# Altium integrated library Analog Devices Data Converters Analog-to-Digital Converters.IntLib: 2400 symbols (part 66 of 338)
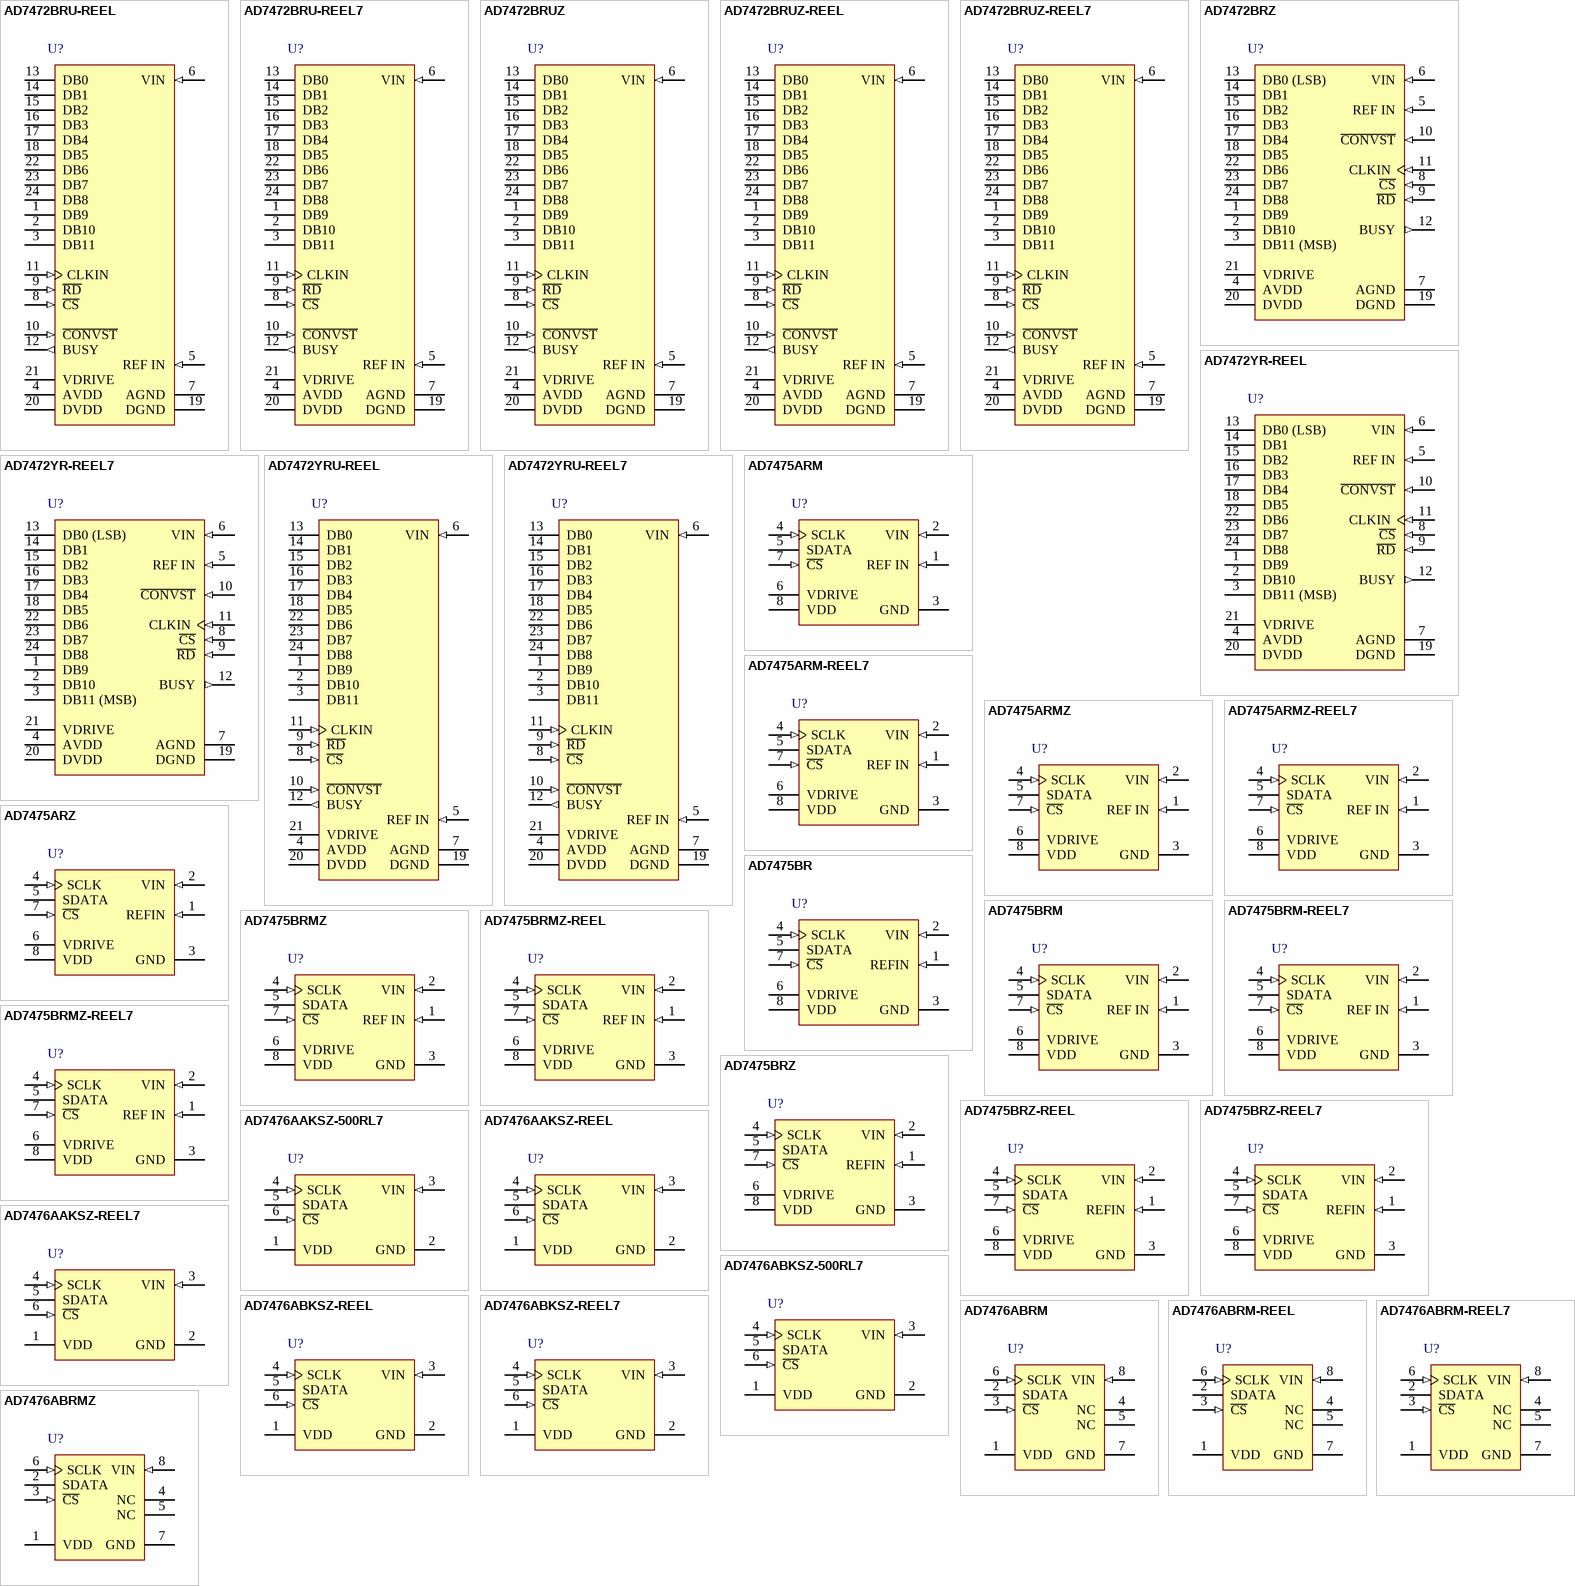
[diagram p193: symbols AD7472BRU-REEL to AD7476ABRMZ]

## AD7475ARMZ-REEL7
designator U?
Single 12-Bit Analog-to-Digital Converter with Serial Interface, 1MSPS, -40 to +85 degC, RM-8, Pb-Free, Reel; Part Number: AD7475; Manufacturer: Analog Devices; Resolution (Bits): 12; Channels: 1; Throughput Rate (SPS): 1M; Interface: Ser; DatasheetVersion: Rev.B; PackageVersion: Aug-2005; PackageReference: RM-8; PackageDescription: 8-Lead Mini Small Outline Package [MSOP]; RoHS: Y; Packing: Reel; Mounting Technology: Surface Mount; Code_JEDEC: MO-187-AA; ComponentLink1Description: Manufacturer URL; ComponentLink1URL: http://www.analog.com/en/index.html; ComponentLink2Description: Datasheet; ComponentLink2URL: http://www.analog.com/static/imported-files/data_sheets/AD7475_7495.pdf; ComponentLink3Description: Package Specification; ComponentLink3URL: http://www.analog.com/static/imported-files/packages/PKG_PDF/MSOP%28RM%29/RM_8.pdf; ComponentLink4Description: Product URL; ComponentLink4URL: http://www.analog.com/en/analog-to-digital-converters/ad-converters/ad7475/products/product.html
footprint RM-8_N (TSOP, 8-Leads, Body 3x3mm, Pitch 0.65mm, IPC Medium Density)
footprint RM-8_L (TSOP, 8-Leads, Body 3x3mm, Pitch 0.65mm, IPC High Density)
footprint RM-8_M (TSOP, 8-Leads, Body 3x3mm, Pitch 0.65mm, IPC Low Density)
pins: 1 REF IN (in) "Reference Input for the AD7475. An external reference must be applied to this input. The voltage range for the external reference is 2.5 V +/- 1% for specified performance. A cap of a least 0.1 uF should be placed on the REF (See Datasheet)", 2 VIN (in) "Analog Input. Single-ended analog input channel. The input range is 0 to REF IN.", 3 GND (power) "Analog Ground. Ground reference point for all circuitry on the AD7475/AD7495. All analog input signals and any external reference signal should be referred to this GND voltage.", 4 SCLK (in) "Serial Clock, Logic Input. SCLK provides the serial clock for accessing data from the part. This clock input is also used as the clock source for the AD7475/AD7495 conversion process.", 5 SDATA (hiz) "Data Out, Logic Output. The conversion result from the AD7475/AD7495 is provided on this output as a serial data stream. The bits are clocked out on the falling edge of the SCLK input. The data stream consists of four (See Datasheet)", 6 VDRIVE (power) "Logic Power Supply Input. The voltage supplied at this pin determines the operating voltage for the serial interface of the AD7475/AD7495.", 7 ~{CS} (in) "Chip Select, Active Low Logic Input. This input provides the dual function of initiating conversions on the AD7475/AD7495 and also frames the serial data transfer.", 8 VDD (power) "Power Supply Input. The VDD range for the AD7475/AD7495 is from 2.7 V to 5.25 V."

## AD7475ARZ
designator U?
Single 12-Bit Analog-to-Digital Converter with Serial Interface, 1MSPS, -40 to +85 degC, R-8, Pb-Free, Tube; Part Number: AD7475; Manufacturer: Analog Devices; Resolution (Bits): 12; Channels: 1; Throughput Rate (SPS): 1M; Interface: Ser; DatasheetVersion: Rev.B; PackageVersion: 060506-A; PackageReference: R-8; PackageDescription: 8-Lead Standard Small Outline Package [SOIC_N] Narrow Body; RoHS: Y; Packing: Tube; Mounting Technology: Surface Mount; Code_JEDEC: MS-012-AA; Code_IPC: SOIC127P600-8; ComponentLink1Description: Manufacturer URL; ComponentLink1URL: http://www.analog.com/en/index.html; ComponentLink2Description: Datasheet; ComponentLink2URL: http://www.analog.com/static/imported-files/data_sheets/AD7475_7495.pdf; ComponentLink3Description: Package Specification; ComponentLink3URL: http://www.analog.com/static/imported-files/packages/PKG_PDF/SOIC_Narrow%20(R)/R_8.pdf; ComponentLink4Description: Product URL; ComponentLink4URL: http://www.analog.com/en/analog-to-digital-converters/ad-converters/ad7475/products/product.html
footprint R-8_N (SOIC, 8-Leads, Body 4.9x3.9mm, Pitch 1.27mm, IPC Medium Density)
footprint R-8_L (SOIC, 8-Leads, Body 4.9x3.9mm, Pitch 1.27mm, IPC High Density)
footprint R-8_M (SOIC, 8-Leads, Body 4.9x3.9mm, Pitch 1.27mm, IPC Low Density)
pins: 1 REFIN (in) "Reference Input for the AD7475. An external reference must be applied to this input. The voltage range for the external reference is 2.5 V +/- 1% for specified performance. A cap of a least 0.1 uF should be placed on the REF (See Datasheet)", 2 VIN (in) "Analog Input. Single-ended analog input channel. The input range is 0 to REF IN.", 3 GND (power) "Analog Ground. Ground reference point for all circuitry on the AD7475. All analog input signals and any external reference signal should be referred to this GND voltage.", 4 SCLK (in) "Serial Clock, Logic Input. SCLK provides the serial clock for accessing data from the part. This clock input is also used as the clock source for the AD7475 conversion process.", 5 SDATA (hiz) "Data Out, Logic Output. The conversion result from the AD7475 is provided on this output as a serial data stream. The bits are clocked out on the falling edge of the SCLK input. The data stream consists of four leading zeros (See Datasheet)", 6 VDRIVE (power) "Logic Power Supply Input. The voltage supplied at this pin determines the operating voltage for the serial interface of the AD7475.", 7 ~{CS} (in) "Chip Select, Active Low Logic Input. This input provides the dual function of initiating conversions on the AD7475 and also frames the serial data transfer.", 8 VDD (power) "Power Supply Input. The VDD range for the AD7475 is from 2.7 V to 5.25 V."

## AD7475BR
designator U?
Single 12-Bit Analog-to-Digital Converter with Serial Interface, 1MSPS, -40 to +85 degC, R-8, Tube; Part Number: AD7475; Manufacturer: Analog Devices; Resolution (Bits): 12; Channels: 1; Throughput Rate (SPS): 1M; Interface: Ser; DatasheetVersion: Rev.B; PackageVersion: 060506-A; PackageReference: R-8; PackageDescription: 8-Lead Standard Small Outline Package [SOIC_N] Narrow Body; RoHS: N; Packing: Tube; Mounting Technology: Surface Mount; Code_JEDEC: MS-012-AA; Code_IPC: SOIC127P600-8; ComponentLink1Description: Manufacturer URL; ComponentLink1URL: http://www.analog.com/en/index.html; ComponentLink2Description: Datasheet; ComponentLink2URL: http://www.analog.com/static/imported-files/data_sheets/AD7475_7495.pdf; ComponentLink3Description: Package Specification; ComponentLink3URL: http://www.analog.com/static/imported-files/packages/PKG_PDF/SOIC_Narrow%20(R)/R_8.pdf; ComponentLink4Description: Product URL; ComponentLink4URL: http://www.analog.com/en/analog-to-digital-converters/ad-converters/ad7475/products/product.html
footprint R-8_N (SOIC, 8-Leads, Body 4.9x3.9mm, Pitch 1.27mm, IPC Medium Density)
footprint R-8_L (SOIC, 8-Leads, Body 4.9x3.9mm, Pitch 1.27mm, IPC High Density)
footprint R-8_M (SOIC, 8-Leads, Body 4.9x3.9mm, Pitch 1.27mm, IPC Low Density)
pins: 1 REFIN (in) "Reference Input for the AD7475. An external reference must be applied to this input. The voltage range for the external reference is 2.5 V +/- 1% for specified performance. A cap of a least 0.1 uF should be placed on the REF (See Datasheet)", 2 VIN (in) "Analog Input. Single-ended analog input channel. The input range is 0 to REF IN.", 3 GND (power) "Analog Ground. Ground reference point for all circuitry on the AD7475. All analog input signals and any external reference signal should be referred to this GND voltage.", 4 SCLK (in) "Serial Clock, Logic Input. SCLK provides the serial clock for accessing data from the part. This clock input is also used as the clock source for the AD7475 conversion process.", 5 SDATA (hiz) "Data Out, Logic Output. The conversion result from the AD7475 is provided on this output as a serial data stream. The bits are clocked out on the falling edge of the SCLK input. The data stream consists of four leading zeros (See Datasheet)", 6 VDRIVE (power) "Logic Power Supply Input. The voltage supplied at this pin determines the operating voltage for the serial interface of the AD7475.", 7 ~{CS} (in) "Chip Select, Active Low Logic Input. This input provides the dual function of initiating conversions on the AD7475 and also frames the serial data transfer.", 8 VDD (power) "Power Supply Input. The VDD range for the AD7475 is from 2.7 V to 5.25 V."

## AD7475BRM
designator U?
Single 12-Bit Analog-to-Digital Converter with Serial Interface, 1MSPS, -40 to +85 degC, RM-8, Tube; Part Number: AD7475; Manufacturer: Analog Devices; Resolution (Bits): 12; Channels: 1; Throughput Rate (SPS): 1M; Interface: Ser; DatasheetVersion: Rev.B; PackageVersion: Aug-2005; PackageReference: RM-8; PackageDescription: 8-Lead Mini Small Outline Package [MSOP]; RoHS: N; Packing: Tube; Mounting Technology: Surface Mount; Code_JEDEC: MO-187-AA; ComponentLink1Description: Manufacturer URL; ComponentLink1URL: http://www.analog.com/en/index.html; ComponentLink2Description: Datasheet; ComponentLink2URL: http://www.analog.com/static/imported-files/data_sheets/AD7475_7495.pdf; ComponentLink3Description: Package Specification; ComponentLink3URL: http://www.analog.com/static/imported-files/packages/PKG_PDF/MSOP%28RM%29/RM_8.pdf; ComponentLink4Description: Product URL; ComponentLink4URL: http://www.analog.com/en/analog-to-digital-converters/ad-converters/ad7475/products/product.html
footprint RM-8_N (TSOP, 8-Leads, Body 3x3mm, Pitch 0.65mm, IPC Medium Density)
footprint RM-8_L (TSOP, 8-Leads, Body 3x3mm, Pitch 0.65mm, IPC High Density)
footprint RM-8_M (TSOP, 8-Leads, Body 3x3mm, Pitch 0.65mm, IPC Low Density)
pins: 1 REF IN (in) "Reference Input for the AD7475. An external reference must be applied to this input. The voltage range for the external reference is 2.5 V +/- 1% for specified performance. A cap of a least 0.1 uF should be placed on the REF (See Datasheet)", 2 VIN (in) "Analog Input. Single-ended analog input channel. The input range is 0 to REF IN.", 3 GND (power) "Analog Ground. Ground reference point for all circuitry on the AD7475/AD7495. All analog input signals and any external reference signal should be referred to this GND voltage.", 4 SCLK (in) "Serial Clock, Logic Input. SCLK provides the serial clock for accessing data from the part. This clock input is also used as the clock source for the AD7475/AD7495 conversion process.", 5 SDATA (hiz) "Data Out, Logic Output. The conversion result from the AD7475/AD7495 is provided on this output as a serial data stream. The bits are clocked out on the falling edge of the SCLK input. The data stream consists of four (See Datasheet)", 6 VDRIVE (power) "Logic Power Supply Input. The voltage supplied at this pin determines the operating voltage for the serial interface of the AD7475/AD7495.", 7 ~{CS} (in) "Chip Select, Active Low Logic Input. This input provides the dual function of initiating conversions on the AD7475/AD7495 and also frames the serial data transfer.", 8 VDD (power) "Power Supply Input. The VDD range for the AD7475/AD7495 is from 2.7 V to 5.25 V."

## AD7475BRM-REEL7
designator U?
Single 12-Bit Analog-to-Digital Converter with Serial Interface, 1MSPS, -40 to +85 degC, RM-8, Reel; Part Number: AD7475; Manufacturer: Analog Devices; Resolution (Bits): 12; Channels: 1; Throughput Rate (SPS): 1M; Interface: Ser; DatasheetVersion: Rev.B; PackageVersion: Aug-2005; PackageReference: RM-8; PackageDescription: 8-Lead Mini Small Outline Package [MSOP]; RoHS: N; Packing: Reel; Mounting Technology: Surface Mount; Code_JEDEC: MO-187-AA; ComponentLink1Description: Manufacturer URL; ComponentLink1URL: http://www.analog.com/en/index.html; ComponentLink2Description: Datasheet; ComponentLink2URL: http://www.analog.com/static/imported-files/data_sheets/AD7475_7495.pdf; ComponentLink3Description: Package Specification; ComponentLink3URL: http://www.analog.com/static/imported-files/packages/PKG_PDF/MSOP%28RM%29/RM_8.pdf; ComponentLink4Description: Product URL; ComponentLink4URL: http://www.analog.com/en/analog-to-digital-converters/ad-converters/ad7475/products/product.html
footprint RM-8_N (TSOP, 8-Leads, Body 3x3mm, Pitch 0.65mm, IPC Medium Density)
footprint RM-8_L (TSOP, 8-Leads, Body 3x3mm, Pitch 0.65mm, IPC High Density)
footprint RM-8_M (TSOP, 8-Leads, Body 3x3mm, Pitch 0.65mm, IPC Low Density)
pins: 1 REF IN (in) "Reference Input for the AD7475. An external reference must be applied to this input. The voltage range for the external reference is 2.5 V +/- 1% for specified performance. A cap of a least 0.1 uF should be placed on the REF (See Datasheet)", 2 VIN (in) "Analog Input. Single-ended analog input channel. The input range is 0 to REF IN.", 3 GND (power) "Analog Ground. Ground reference point for all circuitry on the AD7475/AD7495. All analog input signals and any external reference signal should be referred to this GND voltage.", 4 SCLK (in) "Serial Clock, Logic Input. SCLK provides the serial clock for accessing data from the part. This clock input is also used as the clock source for the AD7475/AD7495 conversion process.", 5 SDATA (hiz) "Data Out, Logic Output. The conversion result from the AD7475/AD7495 is provided on this output as a serial data stream. The bits are clocked out on the falling edge of the SCLK input. The data stream consists of four (See Datasheet)", 6 VDRIVE (power) "Logic Power Supply Input. The voltage supplied at this pin determines the operating voltage for the serial interface of the AD7475/AD7495.", 7 ~{CS} (in) "Chip Select, Active Low Logic Input. This input provides the dual function of initiating conversions on the AD7475/AD7495 and also frames the serial data transfer.", 8 VDD (power) "Power Supply Input. The VDD range for the AD7475/AD7495 is from 2.7 V to 5.25 V."

## AD7475BRMZ
designator U?
Single 12-Bit Analog-to-Digital Converter with Serial Interface, 1MSPS, -40 to +85 degC, RM-8, Pb-Free, Tube; Part Number: AD7475; Manufacturer: Analog Devices; Resolution (Bits): 12; Channels: 1; Throughput Rate (SPS): 1M; Interface: Ser; DatasheetVersion: Rev.B; PackageVersion: Aug-2005; PackageReference: RM-8; PackageDescription: 8-Lead Mini Small Outline Package [MSOP]; RoHS: Y; Packing: Tube; Mounting Technology: Surface Mount; Code_JEDEC: MO-187-AA; ComponentLink1Description: Manufacturer URL; ComponentLink1URL: http://www.analog.com/en/index.html; ComponentLink2Description: Datasheet; ComponentLink2URL: http://www.analog.com/static/imported-files/data_sheets/AD7475_7495.pdf; ComponentLink3Description: Package Specification; ComponentLink3URL: http://www.analog.com/static/imported-files/packages/PKG_PDF/MSOP%28RM%29/RM_8.pdf; ComponentLink4Description: Product URL; ComponentLink4URL: http://www.analog.com/en/analog-to-digital-converters/ad-converters/ad7475/products/product.html
footprint RM-8_N (TSOP, 8-Leads, Body 3x3mm, Pitch 0.65mm, IPC Medium Density)
footprint RM-8_L (TSOP, 8-Leads, Body 3x3mm, Pitch 0.65mm, IPC High Density)
footprint RM-8_M (TSOP, 8-Leads, Body 3x3mm, Pitch 0.65mm, IPC Low Density)
pins: 1 REF IN (in) "Reference Input for the AD7475. An external reference must be applied to this input. The voltage range for the external reference is 2.5 V +/- 1% for specified performance. A cap of a least 0.1 uF should be placed on the REF (See Datasheet)", 2 VIN (in) "Analog Input. Single-ended analog input channel. The input range is 0 to REF IN.", 3 GND (power) "Analog Ground. Ground reference point for all circuitry on the AD7475/AD7495. All analog input signals and any external reference signal should be referred to this GND voltage.", 4 SCLK (in) "Serial Clock, Logic Input. SCLK provides the serial clock for accessing data from the part. This clock input is also used as the clock source for the AD7475/AD7495 conversion process.", 5 SDATA (hiz) "Data Out, Logic Output. The conversion result from the AD7475/AD7495 is provided on this output as a serial data stream. The bits are clocked out on the falling edge of the SCLK input. The data stream consists of four (See Datasheet)", 6 VDRIVE (power) "Logic Power Supply Input. The voltage supplied at this pin determines the operating voltage for the serial interface of the AD7475/AD7495.", 7 ~{CS} (in) "Chip Select, Active Low Logic Input. This input provides the dual function of initiating conversions on the AD7475/AD7495 and also frames the serial data transfer.", 8 VDD (power) "Power Supply Input. The VDD range for the AD7475/AD7495 is from 2.7 V to 5.25 V."

## AD7475BRMZ-REEL
designator U?
Single 12-Bit Analog-to-Digital Converter with Serial Interface, 1MSPS, -40 to +85 degC, RM-8, Pb-Free, Reel; Part Number: AD7475; Manufacturer: Analog Devices; Resolution (Bits): 12; Channels: 1; Throughput Rate (SPS): 1M; Interface: Ser; DatasheetVersion: Rev.B; PackageVersion: Aug-2005; PackageReference: RM-8; PackageDescription: 8-Lead Mini Small Outline Package [MSOP]; RoHS: Y; Packing: Reel; Mounting Technology: Surface Mount; Code_JEDEC: MO-187-AA; ComponentLink1Description: Manufacturer URL; ComponentLink1URL: http://www.analog.com/en/index.html; ComponentLink2Description: Datasheet; ComponentLink2URL: http://www.analog.com/static/imported-files/data_sheets/AD7475_7495.pdf; ComponentLink3Description: Package Specification; ComponentLink3URL: http://www.analog.com/static/imported-files/packages/PKG_PDF/MSOP%28RM%29/RM_8.pdf; ComponentLink4Description: Product URL; ComponentLink4URL: http://www.analog.com/en/analog-to-digital-converters/ad-converters/ad7475/products/product.html
footprint RM-8_N (TSOP, 8-Leads, Body 3x3mm, Pitch 0.65mm, IPC Medium Density)
footprint RM-8_L (TSOP, 8-Leads, Body 3x3mm, Pitch 0.65mm, IPC High Density)
footprint RM-8_M (TSOP, 8-Leads, Body 3x3mm, Pitch 0.65mm, IPC Low Density)
pins: 1 REF IN (in) "Reference Input for the AD7475. An external reference must be applied to this input. The voltage range for the external reference is 2.5 V +/- 1% for specified performance. A cap of a least 0.1 uF should be placed on the REF (See Datasheet)", 2 VIN (in) "Analog Input. Single-ended analog input channel. The input range is 0 to REF IN.", 3 GND (power) "Analog Ground. Ground reference point for all circuitry on the AD7475/AD7495. All analog input signals and any external reference signal should be referred to this GND voltage.", 4 SCLK (in) "Serial Clock, Logic Input. SCLK provides the serial clock for accessing data from the part. This clock input is also used as the clock source for the AD7475/AD7495 conversion process.", 5 SDATA (hiz) "Data Out, Logic Output. The conversion result from the AD7475/AD7495 is provided on this output as a serial data stream. The bits are clocked out on the falling edge of the SCLK input. The data stream consists of four (See Datasheet)", 6 VDRIVE (power) "Logic Power Supply Input. The voltage supplied at this pin determines the operating voltage for the serial interface of the AD7475/AD7495.", 7 ~{CS} (in) "Chip Select, Active Low Logic Input. This input provides the dual function of initiating conversions on the AD7475/AD7495 and also frames the serial data transfer.", 8 VDD (power) "Power Supply Input. The VDD range for the AD7475/AD7495 is from 2.7 V to 5.25 V."

## AD7475BRMZ-REEL7
designator U?
Single 12-Bit Analog-to-Digital Converter with Serial Interface, 1MSPS, -40 to +85 degC, RM-8, Pb-Free, Reel; Part Number: AD7475; Manufacturer: Analog Devices; Resolution (Bits): 12; Channels: 1; Throughput Rate (SPS): 1M; Interface: Ser; DatasheetVersion: Rev.B; PackageVersion: Aug-2005; PackageReference: RM-8; PackageDescription: 8-Lead Mini Small Outline Package [MSOP]; RoHS: Y; Packing: Reel; Mounting Technology: Surface Mount; Code_JEDEC: MO-187-AA; ComponentLink1Description: Manufacturer URL; ComponentLink1URL: http://www.analog.com/en/index.html; ComponentLink2Description: Datasheet; ComponentLink2URL: http://www.analog.com/static/imported-files/data_sheets/AD7475_7495.pdf; ComponentLink3Description: Package Specification; ComponentLink3URL: http://www.analog.com/static/imported-files/packages/PKG_PDF/MSOP%28RM%29/RM_8.pdf; ComponentLink4Description: Product URL; ComponentLink4URL: http://www.analog.com/en/analog-to-digital-converters/ad-converters/ad7475/products/product.html
footprint RM-8_N (TSOP, 8-Leads, Body 3x3mm, Pitch 0.65mm, IPC Medium Density)
footprint RM-8_L (TSOP, 8-Leads, Body 3x3mm, Pitch 0.65mm, IPC High Density)
footprint RM-8_M (TSOP, 8-Leads, Body 3x3mm, Pitch 0.65mm, IPC Low Density)
pins: 1 REF IN (in) "Reference Input for the AD7475. An external reference must be applied to this input. The voltage range for the external reference is 2.5 V +/- 1% for specified performance. A cap of a least 0.1 uF should be placed on the REF (See Datasheet)", 2 VIN (in) "Analog Input. Single-ended analog input channel. The input range is 0 to REF IN.", 3 GND (power) "Analog Ground. Ground reference point for all circuitry on the AD7475/AD7495. All analog input signals and any external reference signal should be referred to this GND voltage.", 4 SCLK (in) "Serial Clock, Logic Input. SCLK provides the serial clock for accessing data from the part. This clock input is also used as the clock source for the AD7475/AD7495 conversion process.", 5 SDATA (hiz) "Data Out, Logic Output. The conversion result from the AD7475/AD7495 is provided on this output as a serial data stream. The bits are clocked out on the falling edge of the SCLK input. The data stream consists of four (See Datasheet)", 6 VDRIVE (power) "Logic Power Supply Input. The voltage supplied at this pin determines the operating voltage for the serial interface of the AD7475/AD7495.", 7 ~{CS} (in) "Chip Select, Active Low Logic Input. This input provides the dual function of initiating conversions on the AD7475/AD7495 and also frames the serial data transfer.", 8 VDD (power) "Power Supply Input. The VDD range for the AD7475/AD7495 is from 2.7 V to 5.25 V."

## AD7475BRZ
designator U?
Single 12-Bit Analog-to-Digital Converter with Serial Interface, 1MSPS, -40 to +85 degC, R-8, Pb-Free, Tube; Part Number: AD7475; Manufacturer: Analog Devices; Resolution (Bits): 12; Channels: 1; Throughput Rate (SPS): 1M; Interface: Ser; DatasheetVersion: Rev.B; PackageVersion: 060506-A; PackageReference: R-8; PackageDescription: 8-Lead Standard Small Outline Package [SOIC_N] Narrow Body; RoHS: Y; Packing: Tube; Mounting Technology: Surface Mount; Code_JEDEC: MS-012-AA; Code_IPC: SOIC127P600-8; ComponentLink1Description: Manufacturer URL; ComponentLink1URL: http://www.analog.com/en/index.html; ComponentLink2Description: Datasheet; ComponentLink2URL: http://www.analog.com/static/imported-files/data_sheets/AD7475_7495.pdf; ComponentLink3Description: Package Specification; ComponentLink3URL: http://www.analog.com/static/imported-files/packages/PKG_PDF/SOIC_Narrow%20(R)/R_8.pdf; ComponentLink4Description: Product URL; ComponentLink4URL: http://www.analog.com/en/analog-to-digital-converters/ad-converters/ad7475/products/product.html
footprint R-8_N (SOIC, 8-Leads, Body 4.9x3.9mm, Pitch 1.27mm, IPC Medium Density)
footprint R-8_L (SOIC, 8-Leads, Body 4.9x3.9mm, Pitch 1.27mm, IPC High Density)
footprint R-8_M (SOIC, 8-Leads, Body 4.9x3.9mm, Pitch 1.27mm, IPC Low Density)
pins: 1 REFIN (in) "Reference Input for the AD7475. An external reference must be applied to this input. The voltage range for the external reference is 2.5 V +/- 1% for specified performance. A cap of a least 0.1 uF should be placed on the REF (See Datasheet)", 2 VIN (in) "Analog Input. Single-ended analog input channel. The input range is 0 to REF IN.", 3 GND (power) "Analog Ground. Ground reference point for all circuitry on the AD7475. All analog input signals and any external reference signal should be referred to this GND voltage.", 4 SCLK (in) "Serial Clock, Logic Input. SCLK provides the serial clock for accessing data from the part. This clock input is also used as the clock source for the AD7475 conversion process.", 5 SDATA (hiz) "Data Out, Logic Output. The conversion result from the AD7475 is provided on this output as a serial data stream. The bits are clocked out on the falling edge of the SCLK input. The data stream consists of four leading zeros (See Datasheet)", 6 VDRIVE (power) "Logic Power Supply Input. The voltage supplied at this pin determines the operating voltage for the serial interface of the AD7475.", 7 ~{CS} (in) "Chip Select, Active Low Logic Input. This input provides the dual function of initiating conversions on the AD7475 and also frames the serial data transfer.", 8 VDD (power) "Power Supply Input. The VDD range for the AD7475 is from 2.7 V to 5.25 V."

## AD7475BRZ-REEL
designator U?
Single 12-Bit Analog-to-Digital Converter with Serial Interface, 1MSPS, 0 to +70 degC, R-8, Pb-Free, Reel; Part Number: AD7475; Manufacturer: Analog Devices; Resolution (Bits): 12; Channels: 1; Throughput Rate (SPS): 1M; Interface: Ser; DatasheetVersion: Rev.B; PackageVersion: 060506-A; PackageReference: R-8; PackageDescription: 8-Lead Standard Small Outline Package [SOIC_N] Narrow Body; RoHS: Y; Packing: Reel; Mounting Technology: Surface Mount; Code_JEDEC: MS-012-AA; Code_IPC: SOIC127P600-8; ComponentLink1Description: Manufacturer URL; ComponentLink1URL: http://www.analog.com/en/index.html; ComponentLink2Description: Datasheet; ComponentLink2URL: http://www.analog.com/static/imported-files/data_sheets/AD7475_7495.pdf; ComponentLink3Description: Package Specification; ComponentLink3URL: http://www.analog.com/static/imported-files/packages/PKG_PDF/SOIC_Narrow%20(R)/R_8.pdf; ComponentLink4Description: Product URL; ComponentLink4URL: http://www.analog.com/en/analog-to-digital-converters/ad-converters/ad7475/products/product.html
footprint R-8_N (SOIC, 8-Leads, Body 4.9x3.9mm, Pitch 1.27mm, IPC Medium Density)
footprint R-8_L (SOIC, 8-Leads, Body 4.9x3.9mm, Pitch 1.27mm, IPC High Density)
footprint R-8_M (SOIC, 8-Leads, Body 4.9x3.9mm, Pitch 1.27mm, IPC Low Density)
pins: 1 REFIN (in) "Reference Input for the AD7475. An external reference must be applied to this input. The voltage range for the external reference is 2.5 V +/- 1% for specified performance. A cap of a least 0.1 uF should be placed on the REF (See Datasheet)", 2 VIN (in) "Analog Input. Single-ended analog input channel. The input range is 0 to REF IN.", 3 GND (power) "Analog Ground. Ground reference point for all circuitry on the AD7475. All analog input signals and any external reference signal should be referred to this GND voltage.", 4 SCLK (in) "Serial Clock, Logic Input. SCLK provides the serial clock for accessing data from the part. This clock input is also used as the clock source for the AD7475 conversion process.", 5 SDATA (hiz) "Data Out, Logic Output. The conversion result from the AD7475 is provided on this output as a serial data stream. The bits are clocked out on the falling edge of the SCLK input. The data stream consists of four leading zeros (See Datasheet)", 6 VDRIVE (power) "Logic Power Supply Input. The voltage supplied at this pin determines the operating voltage for the serial interface of the AD7475.", 7 ~{CS} (in) "Chip Select, Active Low Logic Input. This input provides the dual function of initiating conversions on the AD7475 and also frames the serial data transfer.", 8 VDD (power) "Power Supply Input. The VDD range for the AD7475 is from 2.7 V to 5.25 V."

## AD7475BRZ-REEL7
designator U?
Single 12-Bit Analog-to-Digital Converter with Serial Interface, 1MSPS, 0 to +70 degC, R-8, Pb-Free, Reel; Part Number: AD7475; Manufacturer: Analog Devices; Resolution (Bits): 12; Channels: 1; Throughput Rate (SPS): 1M; Interface: Ser; DatasheetVersion: Rev.B; PackageVersion: 060506-A; PackageReference: R-8; PackageDescription: 8-Lead Standard Small Outline Package [SOIC_N] Narrow Body; RoHS: Y; Packing: Reel; Mounting Technology: Surface Mount; Code_JEDEC: MS-012-AA; Code_IPC: SOIC127P600-8; ComponentLink1Description: Manufacturer URL; ComponentLink1URL: http://www.analog.com/en/index.html; ComponentLink2Description: Datasheet; ComponentLink2URL: http://www.analog.com/static/imported-files/data_sheets/AD7475_7495.pdf; ComponentLink3Description: Package Specification; ComponentLink3URL: http://www.analog.com/static/imported-files/packages/PKG_PDF/SOIC_Narrow%20(R)/R_8.pdf; ComponentLink4Description: Product URL; ComponentLink4URL: http://www.analog.com/en/analog-to-digital-converters/ad-converters/ad7475/products/product.html
footprint R-8_N (SOIC, 8-Leads, Body 4.9x3.9mm, Pitch 1.27mm, IPC Medium Density)
footprint R-8_L (SOIC, 8-Leads, Body 4.9x3.9mm, Pitch 1.27mm, IPC High Density)
footprint R-8_M (SOIC, 8-Leads, Body 4.9x3.9mm, Pitch 1.27mm, IPC Low Density)
pins: 1 REFIN (in) "Reference Input for the AD7475. An external reference must be applied to this input. The voltage range for the external reference is 2.5 V +/- 1% for specified performance. A cap of a least 0.1 uF should be placed on the REF (See Datasheet)", 2 VIN (in) "Analog Input. Single-ended analog input channel. The input range is 0 to REF IN.", 3 GND (power) "Analog Ground. Ground reference point for all circuitry on the AD7475. All analog input signals and any external reference signal should be referred to this GND voltage.", 4 SCLK (in) "Serial Clock, Logic Input. SCLK provides the serial clock for accessing data from the part. This clock input is also used as the clock source for the AD7475 conversion process.", 5 SDATA (hiz) "Data Out, Logic Output. The conversion result from the AD7475 is provided on this output as a serial data stream. The bits are clocked out on the falling edge of the SCLK input. The data stream consists of four leading zeros (See Datasheet)", 6 VDRIVE (power) "Logic Power Supply Input. The voltage supplied at this pin determines the operating voltage for the serial interface of the AD7475.", 7 ~{CS} (in) "Chip Select, Active Low Logic Input. This input provides the dual function of initiating conversions on the AD7475 and also frames the serial data transfer.", 8 VDD (power) "Power Supply Input. The VDD range for the AD7475 is from 2.7 V to 5.25 V."

## AD7476AAKSZ-500RL7
designator U?
Single 12-Bit Analog-to-Digital Converter with Serial, SPI Interface, 2.35 to 5.25 V, 1MSPS, -40 to +85 degC, KS-6, Pb-Free, Reel; Part Number: AD7476A; Manufacturer: Analog Devices; Resolution (Bits): 12; Channels: 1; Throughput Rate (SPS): 1M; Interface: Ser, SPI; Automotive Qualified: Yes; DatasheetVersion: Rev.F; PackageVersion: 072809-A; PackageReference: KS-6; PackageDescription: 6-Lead Thin Shrink Small Outline Transistor Package [SC70]; RoHS: Y; Packing: Reel; Mounting Technology: Surface Mount; Code_JEDEC: MO-203-AB; ComponentLink1Description: Manufacturer URL; ComponentLink1URL: http://www.analog.com/en/index.html; ComponentLink2Description: Datasheet; ComponentLink2URL: http://www.analog.com/static/imported-files/data_sheets/AD7476A_7477A_7478A.pdf; ComponentLink3Description: Package Specification; ComponentLink3URL: http://www.analog.com/static/imported-files/packages/PKG_PDF/SC70(KS)/KS_6.pdf; ComponentLink4Description: Product URL; ComponentLink4URL: http://www.analog.com/en/analog-to-digital-converters/ad-converters/ad7476a/products/product.html
footprint KS-6_N (SOT23, 6-Leads, Body 2x1.3mm, Pitch 0.65mm, Lead Span 2.1mm, IPC Medium Density)
footprint KS-6_L (SOT23, 6-Leads, Body 2x1.3mm, Pitch 0.65mm, Lead Span 2.1mm, IPC High Density)
footprint KS-6_M (SOT23, 6-Leads, Body 2x1.3mm, Pitch 0.65mm, Lead Span 2.1mm, IPC Low Density)
pins: 1 VDD (power) "Power Supply Input. The VDD range for the devices is from 1.6 V to 3.6 V.", 2 GND (power) "Analog Ground. Ground reference point for all circuitry on the devices. All analog input signals should be referred to this GND voltage.", 3 VIN (in) "Analog Input. Single-ended analog input channel. The input range is 0 V to VDD.", 4 SCLK (in) "Serial Clock. Logic input. SCLK provides the serial clock for accessing data from the parts. This clock input is also used as the clock source for the conversion process of the parts.", 5 SDATA (hiz) "Data Out. Logic output. The conversion result from the AD7466/AD7467/AD7468 is provided on this output as a serial data stream. The bits are clocked out on the falling edge of the SCLK input. The data stream from the AD7466 (See Datasheet)", 6 ~{CS} (in) "Chip Select. Active low logic input. This input provides the dual function of initiating conversions on the AD7476A/AD7477A/AD7478A and also frames the serial data transfer."

## AD7476AAKSZ-REEL
designator U?
Single 12-Bit Analog-to-Digital Converter with Serial, SPI Interface, 2.35 to 5.25 V, 1MSPS, -40 to +85 degC, KS-6, Pb-Free, Reel; Part Number: AD7476A; Manufacturer: Analog Devices; Resolution (Bits): 12; Channels: 1; Throughput Rate (SPS): 1M; Interface: Ser, SPI; Automotive Qualified: Yes; DatasheetVersion: Rev.F; PackageVersion: 072809-A; PackageReference: KS-6; PackageDescription: 6-Lead Thin Shrink Small Outline Transistor Package [SC70]; RoHS: Y; Packing: Reel; Mounting Technology: Surface Mount; Code_JEDEC: MO-203-AB; ComponentLink1Description: Manufacturer URL; ComponentLink1URL: http://www.analog.com/en/index.html; ComponentLink2Description: Datasheet; ComponentLink2URL: http://www.analog.com/static/imported-files/data_sheets/AD7476A_7477A_7478A.pdf; ComponentLink3Description: Package Specification; ComponentLink3URL: http://www.analog.com/static/imported-files/packages/PKG_PDF/SC70(KS)/KS_6.pdf; ComponentLink4Description: Product URL; ComponentLink4URL: http://www.analog.com/en/analog-to-digital-converters/ad-converters/ad7476a/products/product.html
footprint KS-6_N (SOT23, 6-Leads, Body 2x1.3mm, Pitch 0.65mm, Lead Span 2.1mm, IPC Medium Density)
footprint KS-6_L (SOT23, 6-Leads, Body 2x1.3mm, Pitch 0.65mm, Lead Span 2.1mm, IPC High Density)
footprint KS-6_M (SOT23, 6-Leads, Body 2x1.3mm, Pitch 0.65mm, Lead Span 2.1mm, IPC Low Density)
pins: 1 VDD (power) "Power Supply Input. The VDD range for the devices is from 1.6 V to 3.6 V.", 2 GND (power) "Analog Ground. Ground reference point for all circuitry on the devices. All analog input signals should be referred to this GND voltage.", 3 VIN (in) "Analog Input. Single-ended analog input channel. The input range is 0 V to VDD.", 4 SCLK (in) "Serial Clock. Logic input. SCLK provides the serial clock for accessing data from the parts. This clock input is also used as the clock source for the conversion process of the parts.", 5 SDATA (hiz) "Data Out. Logic output. The conversion result from the AD7466/AD7467/AD7468 is provided on this output as a serial data stream. The bits are clocked out on the falling edge of the SCLK input. The data stream from the AD7466 (See Datasheet)", 6 ~{CS} (in) "Chip Select. Active low logic input. This input provides the dual function of initiating conversions on the AD7476A/AD7477A/AD7478A and also frames the serial data transfer."

## AD7476AAKSZ-REEL7
designator U?
Single 12-Bit Analog-to-Digital Converter with Serial, SPI Interface, 2.35 to 5.25 V, 1MSPS, -40 to +85 degC, KS-6, Pb-Free, Reel; Part Number: AD7476A; Manufacturer: Analog Devices; Resolution (Bits): 12; Channels: 1; Throughput Rate (SPS): 1M; Interface: Ser, SPI; Automotive Qualified: Yes; DatasheetVersion: Rev.F; PackageVersion: 072809-A; PackageReference: KS-6; PackageDescription: 6-Lead Thin Shrink Small Outline Transistor Package [SC70]; RoHS: Y; Packing: Reel; Mounting Technology: Surface Mount; Code_JEDEC: MO-203-AB; ComponentLink1Description: Manufacturer URL; ComponentLink1URL: http://www.analog.com/en/index.html; ComponentLink2Description: Datasheet; ComponentLink2URL: http://www.analog.com/static/imported-files/data_sheets/AD7476A_7477A_7478A.pdf; ComponentLink3Description: Package Specification; ComponentLink3URL: http://www.analog.com/static/imported-files/packages/PKG_PDF/SC70(KS)/KS_6.pdf; ComponentLink4Description: Product URL; ComponentLink4URL: http://www.analog.com/en/analog-to-digital-converters/ad-converters/ad7476a/products/product.html
footprint KS-6_N (SOT23, 6-Leads, Body 2x1.3mm, Pitch 0.65mm, Lead Span 2.1mm, IPC Medium Density)
footprint KS-6_L (SOT23, 6-Leads, Body 2x1.3mm, Pitch 0.65mm, Lead Span 2.1mm, IPC High Density)
footprint KS-6_M (SOT23, 6-Leads, Body 2x1.3mm, Pitch 0.65mm, Lead Span 2.1mm, IPC Low Density)
pins: 1 VDD (power) "Power Supply Input. The VDD range for the devices is from 1.6 V to 3.6 V.", 2 GND (power) "Analog Ground. Ground reference point for all circuitry on the devices. All analog input signals should be referred to this GND voltage.", 3 VIN (in) "Analog Input. Single-ended analog input channel. The input range is 0 V to VDD.", 4 SCLK (in) "Serial Clock. Logic input. SCLK provides the serial clock for accessing data from the parts. This clock input is also used as the clock source for the conversion process of the parts.", 5 SDATA (hiz) "Data Out. Logic output. The conversion result from the AD7466/AD7467/AD7468 is provided on this output as a serial data stream. The bits are clocked out on the falling edge of the SCLK input. The data stream from the AD7466 (See Datasheet)", 6 ~{CS} (in) "Chip Select. Active low logic input. This input provides the dual function of initiating conversions on the AD7476A/AD7477A/AD7478A and also frames the serial data transfer."

## AD7476ABKSZ-500RL7
designator U?
Single 12-Bit Analog-to-Digital Converter with Serial, SPI Interface, 2.35 to 5.25 V, 1MSPS, -40 to +85 degC, KS-6, Pb-Free, Reel; Part Number: AD7476A; Manufacturer: Analog Devices; Resolution (Bits): 12; Channels: 1; Throughput Rate (SPS): 1M; Interface: Ser, SPI; Automotive Qualified: Yes; DatasheetVersion: Rev.F; PackageVersion: 072809-A; PackageReference: KS-6; PackageDescription: 6-Lead Thin Shrink Small Outline Transistor Package [SC70]; RoHS: Y; Packing: Reel; Mounting Technology: Surface Mount; Code_JEDEC: MO-203-AB; ComponentLink1Description: Manufacturer URL; ComponentLink1URL: http://www.analog.com/en/index.html; ComponentLink2Description: Datasheet; ComponentLink2URL: http://www.analog.com/static/imported-files/data_sheets/AD7476A_7477A_7478A.pdf; ComponentLink3Description: Package Specification; ComponentLink3URL: http://www.analog.com/static/imported-files/packages/PKG_PDF/SC70(KS)/KS_6.pdf; ComponentLink4Description: Product URL; ComponentLink4URL: http://www.analog.com/en/analog-to-digital-converters/ad-converters/ad7476a/products/product.html
footprint KS-6_N (SOT23, 6-Leads, Body 2x1.3mm, Pitch 0.65mm, Lead Span 2.1mm, IPC Medium Density)
footprint KS-6_L (SOT23, 6-Leads, Body 2x1.3mm, Pitch 0.65mm, Lead Span 2.1mm, IPC High Density)
footprint KS-6_M (SOT23, 6-Leads, Body 2x1.3mm, Pitch 0.65mm, Lead Span 2.1mm, IPC Low Density)
pins: 1 VDD (power) "Power Supply Input. The VDD range for the devices is from 1.6 V to 3.6 V.", 2 GND (power) "Analog Ground. Ground reference point for all circuitry on the devices. All analog input signals should be referred to this GND voltage.", 3 VIN (in) "Analog Input. Single-ended analog input channel. The input range is 0 V to VDD.", 4 SCLK (in) "Serial Clock. Logic input. SCLK provides the serial clock for accessing data from the parts. This clock input is also used as the clock source for the conversion process of the parts.", 5 SDATA (hiz) "Data Out. Logic output. The conversion result from the AD7466/AD7467/AD7468 is provided on this output as a serial data stream. The bits are clocked out on the falling edge of the SCLK input. The data stream from the AD7466 (See Datasheet)", 6 ~{CS} (in) "Chip Select. Active low logic input. This input provides the dual function of initiating conversions on the AD7476A/AD7477A/AD7478A and also frames the serial data transfer."

## AD7476ABKSZ-REEL
designator U?
Single 12-Bit Analog-to-Digital Converter with Serial, SPI Interface, 2.35 to 5.25 V, 1MSPS, -40 to +85 degC, KS-6, Pb-Free, Reel; Part Number: AD7476A; Manufacturer: Analog Devices; Resolution (Bits): 12; Channels: 1; Throughput Rate (SPS): 1M; Interface: Ser, SPI; Automotive Qualified: Yes; DatasheetVersion: Rev.F; PackageVersion: 072809-A; PackageReference: KS-6; PackageDescription: 6-Lead Thin Shrink Small Outline Transistor Package [SC70]; RoHS: Y; Packing: Reel; Mounting Technology: Surface Mount; Code_JEDEC: MO-203-AB; ComponentLink1Description: Manufacturer URL; ComponentLink1URL: http://www.analog.com/en/index.html; ComponentLink2Description: Datasheet; ComponentLink2URL: http://www.analog.com/static/imported-files/data_sheets/AD7476A_7477A_7478A.pdf; ComponentLink3Description: Package Specification; ComponentLink3URL: http://www.analog.com/static/imported-files/packages/PKG_PDF/SC70(KS)/KS_6.pdf; ComponentLink4Description: Product URL; ComponentLink4URL: http://www.analog.com/en/analog-to-digital-converters/ad-converters/ad7476a/products/product.html
footprint KS-6_N (SOT23, 6-Leads, Body 2x1.3mm, Pitch 0.65mm, Lead Span 2.1mm, IPC Medium Density)
footprint KS-6_L (SOT23, 6-Leads, Body 2x1.3mm, Pitch 0.65mm, Lead Span 2.1mm, IPC High Density)
footprint KS-6_M (SOT23, 6-Leads, Body 2x1.3mm, Pitch 0.65mm, Lead Span 2.1mm, IPC Low Density)
pins: 1 VDD (power) "Power Supply Input. The VDD range for the devices is from 1.6 V to 3.6 V.", 2 GND (power) "Analog Ground. Ground reference point for all circuitry on the devices. All analog input signals should be referred to this GND voltage.", 3 VIN (in) "Analog Input. Single-ended analog input channel. The input range is 0 V to VDD.", 4 SCLK (in) "Serial Clock. Logic input. SCLK provides the serial clock for accessing data from the parts. This clock input is also used as the clock source for the conversion process of the parts.", 5 SDATA (hiz) "Data Out. Logic output. The conversion result from the AD7466/AD7467/AD7468 is provided on this output as a serial data stream. The bits are clocked out on the falling edge of the SCLK input. The data stream from the AD7466 (See Datasheet)", 6 ~{CS} (in) "Chip Select. Active low logic input. This input provides the dual function of initiating conversions on the AD7476A/AD7477A/AD7478A and also frames the serial data transfer."

## AD7476ABKSZ-REEL7
designator U?
Single 12-Bit Analog-to-Digital Converter with Serial, SPI Interface, 2.35 to 5.25 V, 1MSPS, -40 to +85 degC, KS-6, Pb-Free, Reel; Part Number: AD7476A; Manufacturer: Analog Devices; Resolution (Bits): 12; Channels: 1; Throughput Rate (SPS): 1M; Interface: Ser, SPI; Automotive Qualified: Yes; DatasheetVersion: Rev.F; PackageVersion: 072809-A; PackageReference: KS-6; PackageDescription: 6-Lead Thin Shrink Small Outline Transistor Package [SC70]; RoHS: Y; Packing: Reel; Mounting Technology: Surface Mount; Code_JEDEC: MO-203-AB; ComponentLink1Description: Manufacturer URL; ComponentLink1URL: http://www.analog.com/en/index.html; ComponentLink2Description: Datasheet; ComponentLink2URL: http://www.analog.com/static/imported-files/data_sheets/AD7476A_7477A_7478A.pdf; ComponentLink3Description: Package Specification; ComponentLink3URL: http://www.analog.com/static/imported-files/packages/PKG_PDF/SC70(KS)/KS_6.pdf; ComponentLink4Description: Product URL; ComponentLink4URL: http://www.analog.com/en/analog-to-digital-converters/ad-converters/ad7476a/products/product.html
footprint KS-6_N (SOT23, 6-Leads, Body 2x1.3mm, Pitch 0.65mm, Lead Span 2.1mm, IPC Medium Density)
footprint KS-6_L (SOT23, 6-Leads, Body 2x1.3mm, Pitch 0.65mm, Lead Span 2.1mm, IPC High Density)
footprint KS-6_M (SOT23, 6-Leads, Body 2x1.3mm, Pitch 0.65mm, Lead Span 2.1mm, IPC Low Density)
pins: 1 VDD (power) "Power Supply Input. The VDD range for the devices is from 1.6 V to 3.6 V.", 2 GND (power) "Analog Ground. Ground reference point for all circuitry on the devices. All analog input signals should be referred to this GND voltage.", 3 VIN (in) "Analog Input. Single-ended analog input channel. The input range is 0 V to VDD.", 4 SCLK (in) "Serial Clock. Logic input. SCLK provides the serial clock for accessing data from the parts. This clock input is also used as the clock source for the conversion process of the parts.", 5 SDATA (hiz) "Data Out. Logic output. The conversion result from the AD7466/AD7467/AD7468 is provided on this output as a serial data stream. The bits are clocked out on the falling edge of the SCLK input. The data stream from the AD7466 (See Datasheet)", 6 ~{CS} (in) "Chip Select. Active low logic input. This input provides the dual function of initiating conversions on the AD7476A/AD7477A/AD7478A and also frames the serial data transfer."

## AD7476ABRM
designator U?
Single 12-Bit Analog-to-Digital Converter with Serial, SPI Interface, 2.35 to 5.25 V, 1MSPS, -40 to +85 degC, RM-8, Tube; Part Number: AD7476A; Manufacturer: Analog Devices; Resolution (Bits): 12; Channels: 1; Throughput Rate (SPS): 1M; Interface: Ser, SPI; Automotive Qualified: Yes; DatasheetVersion: Rev.F; PackageVersion: Aug-2005; PackageReference: RM-8; PackageDescription: 8-Lead Mini Small Outline Package [MSOP]; RoHS: N; Packing: Tube; Mounting Technology: Surface Mount; Code_JEDEC: MO-187-AA; ComponentLink1Description: Manufacturer URL; ComponentLink1URL: http://www.analog.com/en/index.html; ComponentLink2Description: Datasheet; ComponentLink2URL: http://www.analog.com/static/imported-files/data_sheets/AD7476A_7477A_7478A.pdf; ComponentLink3Description: Package Specification; ComponentLink3URL: http://www.analog.com/static/imported-files/packages/PKG_PDF/MSOP%28RM%29/RM_8.pdf; ComponentLink4Description: Product URL; ComponentLink4URL: http://www.analog.com/en/analog-to-digital-converters/ad-converters/ad7476a/products/product.html
footprint RM-8_N (TSOP, 8-Leads, Body 3x3mm, Pitch 0.65mm, IPC Medium Density)
footprint RM-8_L (TSOP, 8-Leads, Body 3x3mm, Pitch 0.65mm, IPC High Density)
footprint RM-8_M (TSOP, 8-Leads, Body 3x3mm, Pitch 0.65mm, IPC Low Density)
pins: 1 VDD (power) "Power Supply Input. The VDD range for AD7476A/AD7477A/AD7478A is from 2.35 V to 5.25 V.", 2 SDATA (hiz) "Data Out. Logic output. The conversion result from AD7476A/AD7477A/AD7478A is provided on this output as a serial data stream. The bits are clocked out on the falling edge of the SCLK input. The data stream from the AD7476A (See Datasheet)", 3 ~{CS} (in) "Chip Select. Active low logic input. This input provides the dual function of initiating conversions on the AD7476A/AD7477A/AD7478A and also frames the serial data transfer.", 4 NC "No Connect.", 5 NC "No Connect.", 6 SCLK (in) "Serial Clock. Logic input. SCLK provides the serial clock for accessing data from the part. This clock input is also used as the clock source for the conversion process of AD7476A/AD7477A/AD7478A.", 7 GND (power) "Analog Ground. Ground reference point for all circuitry on AD7476A/AD7477A/AD7478A. Refer all analog input signals to this GND voltage.", 8 VIN (in) "Analog Input. Single-ended analog input channel. The input range is 0 V to VDD."

## AD7476ABRM-REEL
designator U?
Single 12-Bit Analog-to-Digital Converter with Serial, SPI Interface, 2.35 to 5.25 V, 1MSPS, -40 to +85 degC, RM-8, Reel; Part Number: AD7476A; Manufacturer: Analog Devices; Resolution (Bits): 12; Channels: 1; Throughput Rate (SPS): 1M; Interface: Ser, SPI; Automotive Qualified: Yes; DatasheetVersion: Rev.F; PackageVersion: Aug-2005; PackageReference: RM-8; PackageDescription: 8-Lead Mini Small Outline Package [MSOP]; RoHS: N; Packing: Reel; Mounting Technology: Surface Mount; Code_JEDEC: MO-187-AA; ComponentLink1Description: Manufacturer URL; ComponentLink1URL: http://www.analog.com/en/index.html; ComponentLink2Description: Datasheet; ComponentLink2URL: http://www.analog.com/static/imported-files/data_sheets/AD7476A_7477A_7478A.pdf; ComponentLink3Description: Package Specification; ComponentLink3URL: http://www.analog.com/static/imported-files/packages/PKG_PDF/MSOP%28RM%29/RM_8.pdf; ComponentLink4Description: Product URL; ComponentLink4URL: http://www.analog.com/en/analog-to-digital-converters/ad-converters/ad7476a/products/product.html
footprint RM-8_N (TSOP, 8-Leads, Body 3x3mm, Pitch 0.65mm, IPC Medium Density)
footprint RM-8_L (TSOP, 8-Leads, Body 3x3mm, Pitch 0.65mm, IPC High Density)
footprint RM-8_M (TSOP, 8-Leads, Body 3x3mm, Pitch 0.65mm, IPC Low Density)
pins: 1 VDD (power) "Power Supply Input. The VDD range for AD7476A/AD7477A/AD7478A is from 2.35 V to 5.25 V.", 2 SDATA (hiz) "Data Out. Logic output. The conversion result from AD7476A/AD7477A/AD7478A is provided on this output as a serial data stream. The bits are clocked out on the falling edge of the SCLK input. The data stream from the AD7476A (See Datasheet)", 3 ~{CS} (in) "Chip Select. Active low logic input. This input provides the dual function of initiating conversions on the AD7476A/AD7477A/AD7478A and also frames the serial data transfer.", 4 NC "No Connect.", 5 NC "No Connect.", 6 SCLK (in) "Serial Clock. Logic input. SCLK provides the serial clock for accessing data from the part. This clock input is also used as the clock source for the conversion process of AD7476A/AD7477A/AD7478A.", 7 GND (power) "Analog Ground. Ground reference point for all circuitry on AD7476A/AD7477A/AD7478A. Refer all analog input signals to this GND voltage.", 8 VIN (in) "Analog Input. Single-ended analog input channel. The input range is 0 V to VDD."